# Altium integrated library LM27762.IntLib: 1 symbol
Pins are listed as number, name and electrical type; pins without a type are passive.

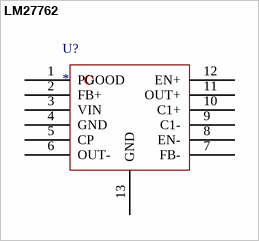
[diagram p0: symbol LM27762]

## LM27762
designator U?
footprint LM27762(PSON50P200X80_HS-13N) (PSON, 12-Leads, Body 3.00x2.00mm, Pitch 0.50mm, Thermal Pad 2.65x0.86mm, IPC Medium Density)
pins: 1 PGOOD, 2 FB+, 3 VIN, 4 GND, 5 CP, 6 OUT-, 7 FB-, 8 EN-, 9 C1-, 10 C1+, 11 OUT+, 12 EN+, 13 GND